# EAGLE library part DS3231S#T&R (library eagle-library-engr-245-s22)
Real Time Clock Serial 16-Pin SOIC W T/R Check prices <https://snapeda.com/parts/DS3231S%23T%26amp%3BR/Maxim%20Integrated/view-part/?ref=eda>
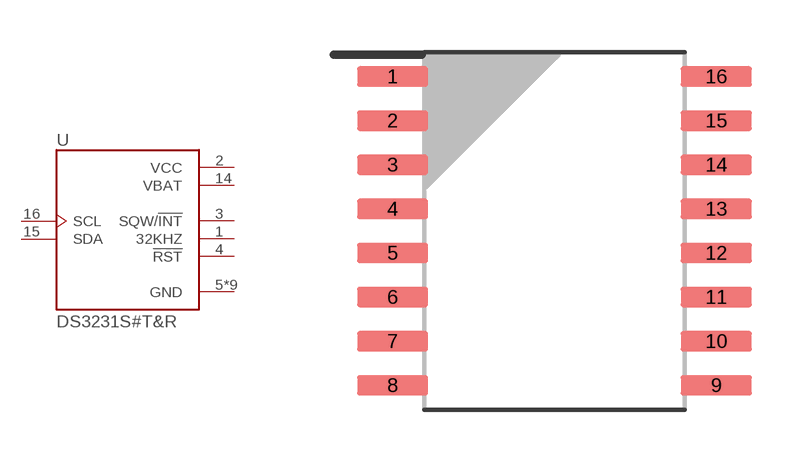
[diagram p4: symbol with the pads of SOIC127P1032X265-16N; footprint SOIC127P1032X265-16N]

Designator prefix U

## DS3231S#T&R (AVAILABILITY: Warning; DESCRIPTION: Real Time Clock (RTC) IC Clock/Calendar I²C, 2-Wire Serial 16-SOIC (0.295, 7.50mm Width); DIGIKEY-PURCHASE-URL: https://snapeda.com/shop?store=DigiKey&id=1099705; MF: Maxim Integrated; MP: DS3231S#T&amp;R; PACKAGE: SOIC-16 Maxim; PRICE: None)  [SOIC127P1032X265-16N]
1  32KHZ  out
2  VCC  pwr
3  SQW/!INT  out
4  !RST  out
5  GND  pwr
6  GND  pwr
7  GND  pwr
8  GND  pwr
9  GND  pwr
10  GND  pwr
11  GND  pwr
12  GND  pwr
13  GND  pwr
14  VBAT  pwr
15  SDA
16  SCL  in

## Footprint SOIC127P1032X265-16N (pad centres in mm)
smd 2.05 x 0.59: 1 -4.655,4.445; 2 -4.655,3.175; 3 -4.655,1.905; 4 -4.655,0.635; 5 -4.655,-0.635; 6 -4.655,-1.905; 7 -4.655,-3.175; 8 -4.655,-4.445; 9 4.655,-4.445; 10 4.655,-3.175; 11 4.655,-1.905; 12 4.655,-0.635; 13 4.655,0.635; 14 4.655,1.905; 15 4.655,3.175; 16 4.655,4.445